# EAGLE library part GMSTBV12 (library con-phoenix-508)
PHOENIX
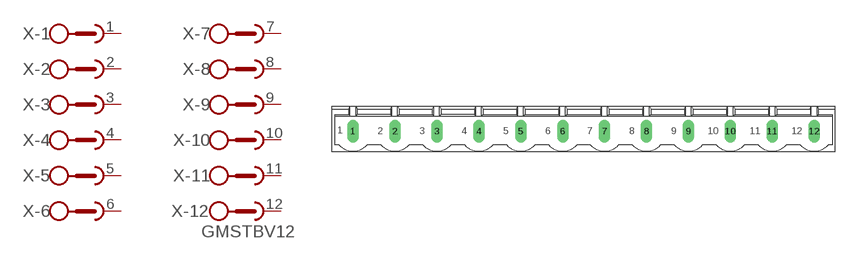
[diagram p11: symbol with the pads of GMSTBV12; footprint GMSTBV12]

Designator prefix X; gates -1=SKB -2=SKB -3=SKB -4=SKB -5=SKB -6=SKB -7=SKB -8=SKB -9=SKB -10=SKB -11=SKB -12=SKBV

## GMSTBV12  [GMSTBV12]
1  -1:1  pas
2  -2:1  pas
3  -3:1  pas
4  -4:1  pas
5  -5:1  pas
6  -6:1  pas
7  -7:1  pas
8  -8:1  pas
9  -9:1  pas
10  -10:1  pas
11  -11:1  pas
12  -12:1  pas

## Footprint GMSTBV12 (pad centres in mm)
PHOENIX
drill 1.4 long: 1 -41.91,0; 2 -34.29,0; 3 -26.67,0; 4 -19.05,0; 5 -11.43,0; 6 -3.81,0; 7 3.81,0; 8 11.43,0; 9 19.05,0; 10 26.67,0; 11 34.29,0; 12 41.91,0